# EAGLE library part MAX31855 (library alexwhittemore-eagle)
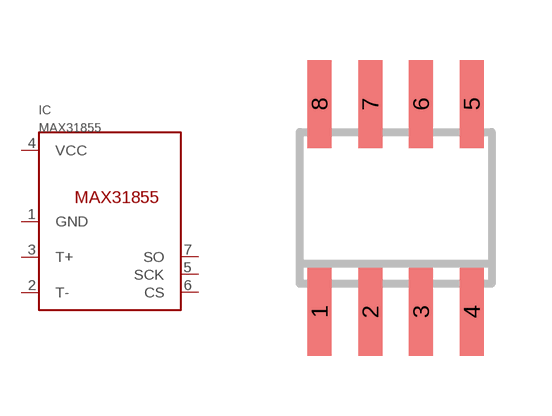
[diagram p6: symbol with the pads of SOIC8; footprint SOIC8]

Designator prefix IC

## MAX31855  [SOIC8]
1  GND  pwr
2  T-  in
3  T+  in
4  VCC  pwr
5  SCK  in
6  CS  in
7  SO  out

## Footprint SOIC8 (pad centres in mm)
Small Outline IC
smd 0.6 x 2.2: 1 -1.905,-2.6; 2 -0.635,-2.6; 3 0.635,-2.6; 4 1.905,-2.6; 5 1.905,2.6; 6 0.635,2.6; 7 -0.635,2.6; 8 -1.905,2.6